# EAGLE library part AT28C256 (library Dargon's_lib)
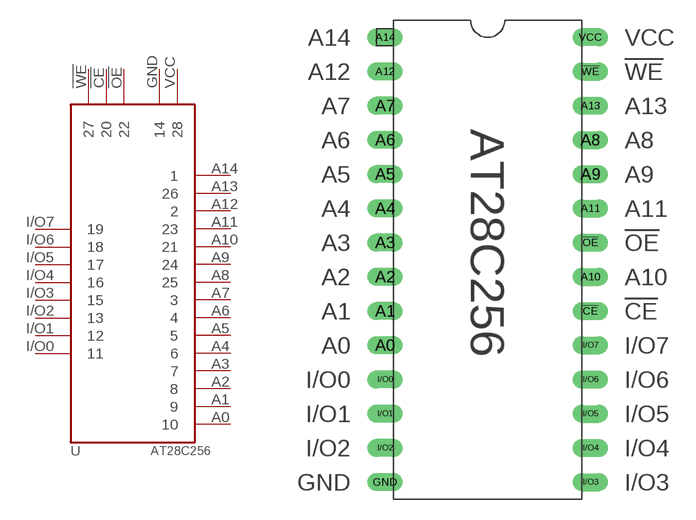
[diagram p0: symbol with the pads of AT28C256; footprint AT28C256]

Designator prefix -

## AT28C256  [AT28C256]
!CE  20
!OE  22
!WE  27
A0  10
A1  9
A2  8
A3  7
A4  6
A5  5
A6  4
A7  3
A8  25
A9  24
A10  21
A11  23
A12  2
A13  26
A14  1
GND  14
I/O0  11
I/O1  12
I/O2  13
I/O3  15
I/O4  16
I/O5  17
I/O6  18
I/O7  19
VCC  28

## Footprint AT28C256 (pad centres in mm)
drill 0.813 long: !CE 7.62,-5.08; !OE 7.62,0; !WE 7.62,12.7; A0 -7.62,-7.62; A1 -7.62,-5.08; A2 -7.62,-2.54; A3 -7.62,0; A4 -7.62,2.54; A5 -7.62,5.08; A6 -7.62,7.62; A7 -7.62,10.16; A8 7.62,7.62; A9 7.62,5.08; A10 7.62,-2.54; A11 7.62,2.54; A12 -7.62,12.7; A13 7.62,10.16; A14 -7.62,15.24; GND -7.62,-17.78; I/O0 -7.62,-10.16; I/O1 -7.62,-12.7; I/O2 -7.62,-15.24; I/O3 7.62,-17.78; I/O4 7.62,-15.24; I/O5 7.62,-12.7; I/O6 7.62,-10.16; I/O7 7.62,-7.62; VCC 7.62,15.24